# Altium schematic symbol library MAX9722AEUE&plus_.SchLib: 2 symbols
Pins are listed as number, name and electrical type; pins without a type are passive.

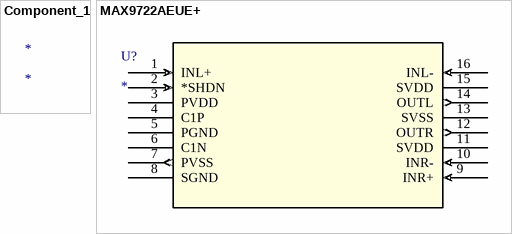
[diagram p0: symbols Component_1 to MAX9722AEUE+]

## Component_1
designator *

## MAX9722AEUE+
designator U?
No Description Available; Mfr_Name: Analog Devices Inc; RefDes: RefDes; Type: Type
footprint 21-0066J_16
pins: 1 INL+ (in), 2 *SHDN (in), 3 PVDD (power), 4 C1P, 5 PGND (power), 6 C1N, 7 PVSS (out), 8 SGND (power), 9 INR+ (in), 10 INR- (in), 11 SVDD (power), 12 OUTR (out), 13 SVSS (power), 14 OUTL (out), 15 SVDD (power), 16 INL- (in)